# Altium footprint library SnapEDApcb.PcbLib: 1 footprints
Each footprint in its own frame and in the unit in brackets; x right, y up, seen from the top. Pads: shape width x height; smd on the part's side, far side on the other; paste and mask are expansions set on the pad; w line width, h text height; cw(c..) or ccw(c..) is an arc to the next point about the centre after c.
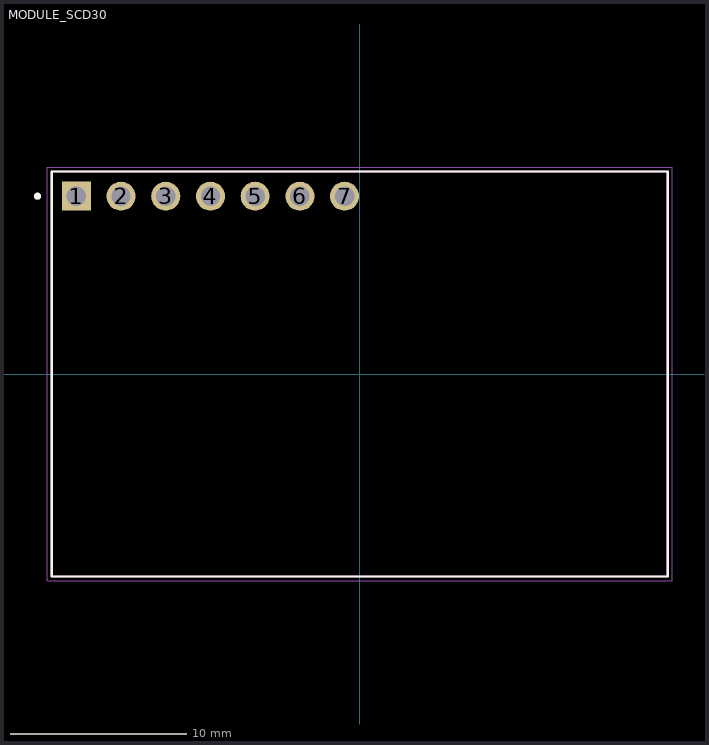
[diagram p0: the footprint, top view; thin cyan lines are the x and y axes]

## MODULE_SCD30 [mm]
pads (7):
  rect 1.65x1.65 hole 1.1: 1(-16.1,10.1)
  round 1.65 hole 1.1: 2(-13.56,10.1) 3(-11.02,10.1) 4(-8.48,10.1) 5(-5.94,10.1) 6(-3.4,10.1) 7(-0.86,10.1)
Top Overlay:
  circle w0.2: c-18.3,10.1 r0.1
  lines w0.127: -17.5,-11.5 -17.5,11.5 17.5,11.5 17.5,-11.5 -17.5,-11.5
Mechanical 13:
  circle w0.2: c-18.3,10.1 r0.1
  lines w0.127: -17.5,-11.5 17.5,-11.5 17.5,11.5 -17.5,11.5 -17.5,-11.5
Mechanical 15:
  lines w0.05: -17.75,-11.75 17.75,-11.75 17.75,11.75 -17.75,11.75 -17.75,-11.75